# Altium footprint library HDMI_Type_A_Edge_Vertical.PcbLib: 1 footprints
Each footprint in its own frame and in the unit in brackets; x right, y up, seen from the top. Pads: shape width x height; smd on the part's side, far side on the other; paste and mask are expansions set on the pad; w line width, h text height; cw(c..) or ccw(c..) is an arc to the next point about the centre after c.
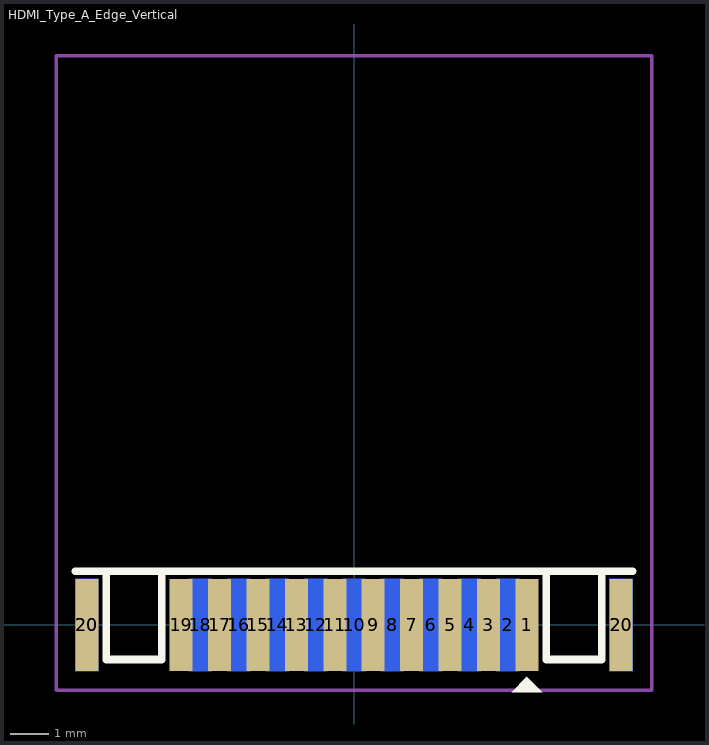
[diagram p0: the footprint, top view; thin cyan lines are the x and y axes]

## HDMI_Type_A_Edge_Vertical [mm]
pads (23):
  rect 0.6x2.4 smd: 1(4.5,0) 3(3.5,0) 5(2.5,0) 7(1.5,0) 9(0.5,0) 11(-0.5,0) 13(-1.5,0) 15(-2.5,0) 17(-3.5,0) 19(-4.5,0) 20(-6.95,0) 20(6.95,0)
  rect 0.6x2.4 smd far side: 2(4,0) 4(3,0) 6(2,0) 8(1,0) 10(0,0) 12(-1,0) 14(-2,0) 16(-3,0) 18(-4,0) 20(-6.95,0) 20(6.95,0)
Top Overlay:
  region: 4.9,-1.75 4.1,-1.75 4.5,-1.35
  lines w0.2: -7.25,1.4 -6.45,1.4 ; 7.25,1.4 6.45,1.4 ; -6.45,1.4 -5,1.4 ; -6.45,1.4 -6.45,-0.9 -5,-0.9 -5,1.4 ; -5,1.4 5,1.4 ; 5,1.4 6.45,1.4 ; 5,1.4 5,-0.9 6.45,-0.9 6.45,1.4
Bottom Overlay:
  lines w0.2: -7.25,1.4 -6.45,1.4 ; -5,1.4 5,1.4 ; 7.25,1.4 6.45,1.4 ; -6.45,1.4 -6.45,-0.9 -4.5,-0.9 -4.5,1.4 -6.45,1.4 ; 6.45,1.4 6.45,-0.9 4.5,-0.9 4.5,1.4 6.45,1.4
Top Courtyard:
  lines w0.1: -7.75,-1.7 -7.75,14.812 7.75,14.812 7.75,-1.7 -7.25,-1.7 -7.75,-1.7
3D body "User Library-HDMIA.STEP": height 1.42, standoff -3.03, extent -6.95,-0.9 6.95,14.31